# Altium integrated library Microchip Interface Line Transceiver.IntLib: 7 symbols
Pins are listed as number, name and electrical type; pins without a type are passive.

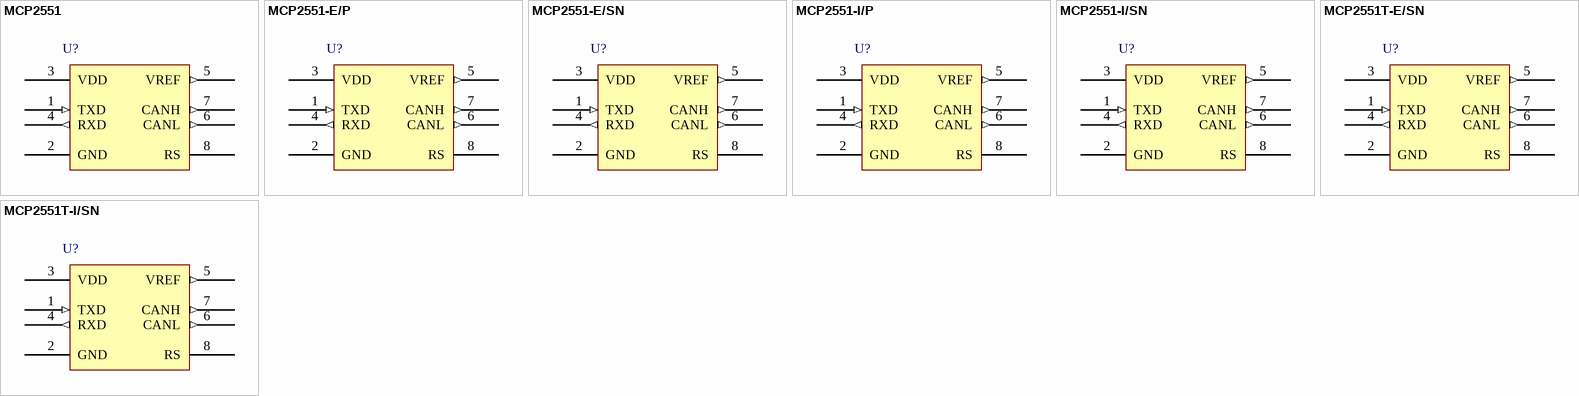
[diagram p0: symbols MCP2551 to MCP2551T-I/SN]

## MCP2551
designator U?
High Speed Can Transceiver; Published: 6-Oct-2005; LatestRevisionDate: 13-Apr-2006; LatestRevisionNote: IPC-7351 Footprint Added.; DatasheetVersion: Nov-2003; PackageVersion: Oct-2005; PackageReference: SOIC150-8; Publisher: Altium Limited; PackageDescription: 8-Pin Plastic Narrow Body Small Outline Integrated Circuit 1.27 mm Pitch; Code_JEDEC: MS-012; ComponentLink1Description: Manufacturer Link; ComponentLink1URL: http://www.microchip.com; ComponentLink2Description: Datasheet; ComponentLink2URL: http://ww1.microchip.com/downloads/en/DeviceDoc/21667d.pdf
footprint SOIC150-8_N (SOIC, 8-Leads, Body 4.9x3.8mm, Pitch 1.27mm, IPC Medium Density)
footprint SOIC150-8_L (SOIC, 8-Leads, Body 4.9x3.8mm, Pitch 1.27mm, IPC High Density)
footprint SOIC150-8_M (SOIC, 8-Leads, Body 4.9x3.8mm, Pitch 1.27mm, IPC Low Density)
pins: 1 TXD (in) "Screw Terminal", 2 GND (power), 3 VDD (power) "Positive Supply 4.5V to 5.5V", 4 RXD (out) "Receive Data", 5 VREF (out) "Reference Voltage", 6 CANL (out) "CAN Bus Low Line", 7 CANH (out) "CAN Bus High Line", 8 RS "Mode/Slope Setting"

## MCP2551-E/P
designator U?
High Speed CAN Transceiver, 8-Pin Plastic DIP, Extended Grade; Published: 6-Oct-2005; DatasheetVersion: Nov-2003; PackageVersion: Oct-2005; PackageReference: PDIP300-8; Publisher: Altium Limited; PackageDescription: DIP, Plastic; 8 Leads; Row Spacing 7.62 mm; Pitch 2.54 mm; Code_JEDEC: MS-001; ComponentLink1Description: Manufacturer Link; ComponentLink1URL: http://www.microchip.com; ComponentLink2Description: Datasheet; ComponentLink2URL: http://ww1.microchip.com/downloads/en/DeviceDoc/21667d.pdf
footprint PDIP300-8 (DIP, Plastic; 8 Leads; Row Spacing 7.62 mm; Pitch 2.54 mm)
pins: 1 TXD (in) "Screw Terminal", 2 GND (power), 3 VDD (power) "Positive Supply 4.5V to 5.5V", 4 RXD (out) "Receive Data", 5 VREF (out) "Reference Voltage", 6 CANL (out) "CAN Bus Low Line", 7 CANH (out) "CAN Bus High Line", 8 RS "Mode/Slope Setting"

## MCP2551-E/SN
designator U?
High Speed CAN Transceiver, 8-Pin Plastic SOIC, Extended Grade; Published: 6-Oct-2005; LatestRevisionDate: 13-Apr-2006; LatestRevisionNote: IPC-7351 Footprint Added.; DatasheetVersion: Nov-2003; PackageVersion: Oct-2005; PackageReference: SOIC150-8; Publisher: Altium Limited; PackageDescription: 8-Pin Plastic Narrow Body Small Outline Integrated Circuit 1.27 mm Pitch; Code_JEDEC: MS-012; ComponentLink1Description: Manufacturer Link; ComponentLink1URL: http://www.microchip.com; ComponentLink2Description: Datasheet; ComponentLink2URL: http://ww1.microchip.com/downloads/en/DeviceDoc/21667d.pdf
footprint SOIC150-8_N (SOIC, 8-Leads, Body 4.9x3.8mm, Pitch 1.27mm, IPC Medium Density)
footprint SOIC150-8_L (SOIC, 8-Leads, Body 4.9x3.8mm, Pitch 1.27mm, IPC High Density)
footprint SOIC150-8_M (SOIC, 8-Leads, Body 4.9x3.8mm, Pitch 1.27mm, IPC Low Density)
pins: 1 TXD (in) "Screw Terminal", 2 GND (power), 3 VDD (power) "Positive Supply 4.5V to 5.5V", 4 RXD (out) "Receive Data", 5 VREF (out) "Reference Voltage", 6 CANL (out) "CAN Bus Low Line", 7 CANH (out) "CAN Bus High Line", 8 RS "Mode/Slope Setting"

## MCP2551-I/P
designator U?
High Speed CAN Transceiver, 8-Pin Plastic DIP, Industrial Grade; Published: 6-Oct-2005; DatasheetVersion: Nov-2003; PackageVersion: Oct-2005; PackageReference: PDIP300-8; Publisher: Altium Limited; PackageDescription: DIP, Plastic; 8 Leads; Row Spacing 7.62 mm; Pitch 2.54 mm; Code_JEDEC: MS-001; ComponentLink1Description: Manufacturer Link; ComponentLink1URL: http://www.microchip.com; ComponentLink2Description: Datasheet; ComponentLink2URL: http://ww1.microchip.com/downloads/en/DeviceDoc/21667d.pdf
footprint PDIP300-8 (DIP, Plastic; 8 Leads; Row Spacing 7.62 mm; Pitch 2.54 mm)
pins: 1 TXD (in) "Screw Terminal", 2 GND (power), 3 VDD (power) "Positive Supply 4.5V to 5.5V", 4 RXD (out) "Receive Data", 5 VREF (out) "Reference Voltage", 6 CANL (out) "CAN Bus Low Line", 7 CANH (out) "CAN Bus High Line", 8 RS "Mode/Slope Setting"

## MCP2551-I/SN
designator U?
High Speed CAN Transceiver, 8-Pin Plastic SOIC, Industrial Grade; Published: 6-Oct-2005; LatestRevisionDate: 13-Apr-2006; LatestRevisionNote: IPC-7351 Footprint Added.; DatasheetVersion: Nov-2003; PackageVersion: Oct-2005; PackageReference: SOIC150-8; Publisher: Altium Limited; PackageDescription: 8-Pin Plastic Narrow Body Small Outline Integrated Circuit 1.27 mm Pitch; Code_JEDEC: MS-012; ComponentLink1Description: Manufacturer Link; ComponentLink1URL: http://www.microchip.com; ComponentLink2Description: Datasheet; ComponentLink2URL: http://ww1.microchip.com/downloads/en/DeviceDoc/21667d.pdf
footprint SOIC150-8_N (SOIC, 8-Leads, Body 4.9x3.8mm, Pitch 1.27mm, IPC Medium Density)
footprint SOIC150-8_L (SOIC, 8-Leads, Body 4.9x3.8mm, Pitch 1.27mm, IPC High Density)
footprint SOIC150-8_M (SOIC, 8-Leads, Body 4.9x3.8mm, Pitch 1.27mm, IPC Low Density)
pins: 1 TXD (in) "Screw Terminal", 2 GND (power), 3 VDD (power) "Positive Supply 4.5V to 5.5V", 4 RXD (out) "Receive Data", 5 VREF (out) "Reference Voltage", 6 CANL (out) "CAN Bus Low Line", 7 CANH (out) "CAN Bus High Line", 8 RS "Mode/Slope Setting"

## MCP2551T-E/SN
designator U?
High Speed CAN Transceiver, 8-Pin Plastic SOIC, Extended Grade; Published: 6-Oct-2005; LatestRevisionDate: 13-Apr-2006; LatestRevisionNote: IPC-7351 Footprint Added.; DatasheetVersion: Nov-2003; PackageVersion: Oct-2005; PackageReference: SOIC150-8; Publisher: Altium Limited; PackageDescription: 8-Pin Plastic Narrow Body Small Outline Integrated Circuit 1.27 mm Pitch; Code_JEDEC: MS-012; ComponentLink1Description: Manufacturer Link; ComponentLink1URL: http://www.microchip.com; ComponentLink2Description: Datasheet; ComponentLink2URL: http://ww1.microchip.com/downloads/en/DeviceDoc/21667d.pdf
footprint SOIC150-8_N (SOIC, 8-Leads, Body 4.9x3.8mm, Pitch 1.27mm, IPC Medium Density)
footprint SOIC150-8_L (SOIC, 8-Leads, Body 4.9x3.8mm, Pitch 1.27mm, IPC High Density)
footprint SOIC150-8_M (SOIC, 8-Leads, Body 4.9x3.8mm, Pitch 1.27mm, IPC Low Density)
pins: 1 TXD (in) "Screw Terminal", 2 GND (power), 3 VDD (power) "Positive Supply 4.5V to 5.5V", 4 RXD (out) "Receive Data", 5 VREF (out) "Reference Voltage", 6 CANL (out) "CAN Bus Low Line", 7 CANH (out) "CAN Bus High Line", 8 RS "Mode/Slope Setting"

## MCP2551T-I/SN
designator U?
High Speed CAN Transceiver, 8-Pin Plastic SOIC, Industrial Grade; Published: 6-Oct-2005; LatestRevisionDate: 13-Apr-2006; LatestRevisionNote: IPC-7351 Footprint Added.; DatasheetVersion: Nov-2003; PackageVersion: Oct-2005; PackageReference: SOIC150-8; Publisher: Altium Limited; PackageDescription: 8-Pin Plastic Narrow Body Small Outline Integrated Circuit 1.27 mm Pitch; Code_JEDEC: MS-012; ComponentLink1Description: Manufacturer Link; ComponentLink1URL: http://www.microchip.com; ComponentLink2Description: Datasheet; ComponentLink2URL: http://ww1.microchip.com/downloads/en/DeviceDoc/21667d.pdf
footprint SOIC150-8_N (SOIC, 8-Leads, Body 4.9x3.8mm, Pitch 1.27mm, IPC Medium Density)
footprint SOIC150-8_L (SOIC, 8-Leads, Body 4.9x3.8mm, Pitch 1.27mm, IPC High Density)
footprint SOIC150-8_M (SOIC, 8-Leads, Body 4.9x3.8mm, Pitch 1.27mm, IPC Low Density)
pins: 1 TXD (in) "Screw Terminal", 2 GND (power), 3 VDD (power) "Positive Supply 4.5V to 5.5V", 4 RXD (out) "Receive Data", 5 VREF (out) "Reference Voltage", 6 CANL (out) "CAN Bus Low Line", 7 CANH (out) "CAN Bus High Line", 8 RS "Mode/Slope Setting"